# EAGLE library part MOLEX-53780-0870 (library con-Molex-53780)
Molex 53780 8-way right-angle SMD
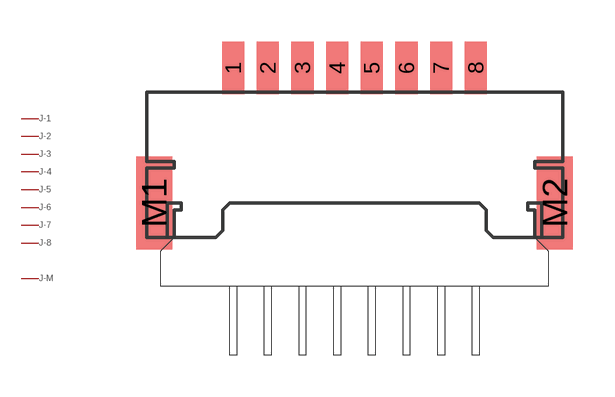
[diagram p0: symbol with the pads of 53780-0870; footprint 53780-0870]

Designator prefix J; gates -1=PIN -2=PIN -3=PIN -4=PIN -5=PIN -6=PIN -7=PIN -8=PIN -M=PIN

## MOLEX-53780-0870  [53780-0870]
1  -1:P
2  -2:P
3  -3:P
4  -4:P
5  -5:P
6  -6:P
7  -7:P
8  -8:P
M1  -M:P
M2  -M:P

## Footprint 53780-0870 (pad centres in mm)
smd 0.8 x 1.9: 1 -4.375,4.875; 2 -3.125,4.875; 3 -1.875,4.875; 4 -0.625,4.875; 5 0.625,4.875; 6 1.875,4.875; 7 3.125,4.875; 8 4.375,4.875
smd 1.3 x 3.35: M1 -7.225,0; M2 7.225,0